# EAGLE library part FT312D-32Q1C-T (library FT312D)
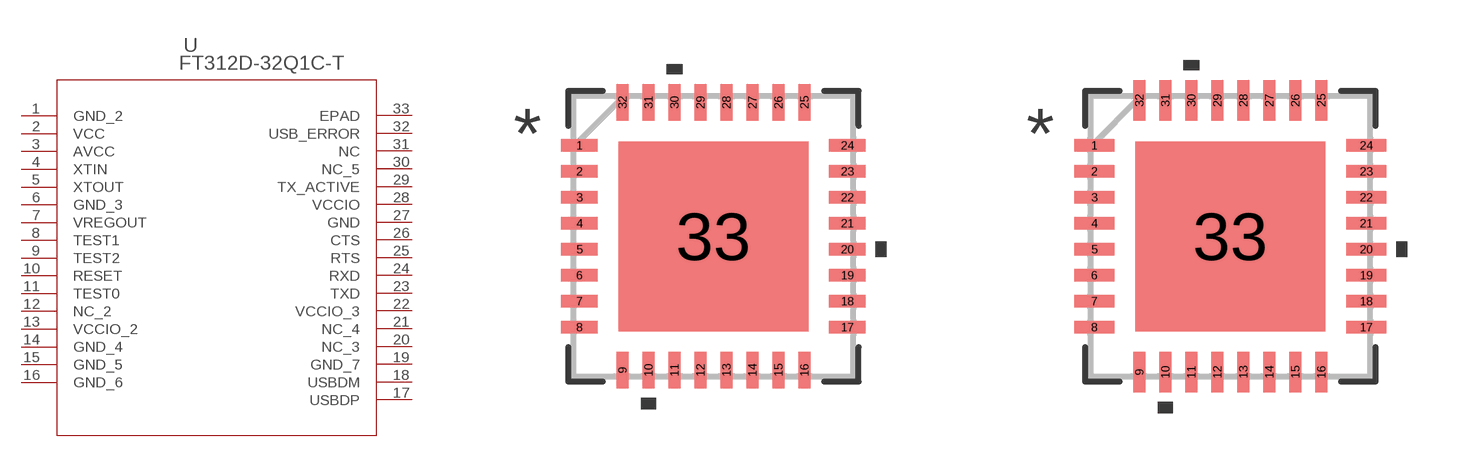
[diagram p0: symbol with the pads of QFN32_7X7-0P65_FTD; footprints QFN32_7X7-0P65_FTD, QFN32_7X7-0P65_FTD-M]

Designator prefix U

## FT312D-32Q1C-T (COPYRIGHT: Copyright (C) 2023 Ultra Librarian. All rights reserved.; MANUFACTURER_PART_NUMBER: FT312D-32Q1C-T; MFR_NAME: FTDI, Future Technology Devices International Ltd; TYPE: Interface)  [QFN32_7X7-0P65_FTD]
1  GND_2  pas
2  VCC  pwr
3  AVCC  pwr
4  XTIN  in
5  XTOUT  out
6  GND_3  pas
7  VREGOUT  pwr
8  TEST1  in
9  TEST2  in
10  RESET  in
11  TEST0  out
12  NC_2  nc
13  VCCIO_2  pwr
14  GND_4  pas
15  GND_5  pas
16  GND_6  pas
17  USBDP
18  USBDM
19  GND_7  pas
20  NC_3  nc
21  NC_4  nc
22  VCCIO_3  pwr
23  TXD  out
24  RXD  in
25  RTS  out
26  CTS  in
27  GND  pas
28  VCCIO  pwr
29  TX_ACTIVE  out
30  NC_5  nc
31  NC  nc
32  USB_ERROR  out
33  EPAD  pas

## FT312D-32Q1C-TQFN32_7X7-0P65_FTD-M (COPYRIGHT: Copyright (C) 2023 Ultra Librarian. All rights reserved.; MANUFACTURER_PART_NUMBER: FT312D-32Q1C-T; MFR_NAME: FTDI, Future Technology Devices International Ltd; TYPE: Interface)  [QFN32_7X7-0P65_FTD-M]
Pads as for QFN32_7X7-0P65_FTD

## FT312D-32Q1C-TQFN32_7X7-0P65_FTD-L (COPYRIGHT: Copyright (C) 2023 Ultra Librarian. All rights reserved.; MANUFACTURER_PART_NUMBER: FT312D-32Q1C-T; MFR_NAME: FTDI, Future Technology Devices International Ltd; TYPE: Interface)  [QFN32_7X7-0P65_FTD-L]
Pads as for QFN32_7X7-0P65_FTD

## Footprint QFN32_7X7-0P65_FTD (pad centres in mm)
smd 0.91 x 0.306: 1 -3.35,2.275; 2 -3.35,1.625; 3 -3.35,0.975; 4 -3.35,0.325; 5 -3.35,-0.325; 6 -3.35,-0.975; 7 -3.35,-1.625; 8 -3.35,-2.275; 17 3.35,-2.275; 18 3.35,-1.625; 19 3.35,-0.975; 20 3.35,-0.325; 21 3.35,0.325; 22 3.35,0.975; 23 3.35,1.625; 24 3.35,2.275
smd 0.306 x 0.91: 9 -2.275,-3.35; 10 -1.625,-3.35; 11 -0.975,-3.35; 12 -0.325,-3.35; 13 0.325,-3.35; 14 0.975,-3.35; 15 1.625,-3.35; 16 2.275,-3.35; 25 2.275,3.35; 26 1.625,3.35; 27 0.975,3.35; 28 0.325,3.35; 29 -0.325,3.35; 30 -0.975,3.35; 31 -1.625,3.35; 32 -2.275,3.35
smd 4.75 x 4.75: 33 0,0

## Footprint QFN32_7X7-0P65_FTD-M (pad centres in mm)
smd 1.01 x 0.306: 1 -3.4,2.275; 2 -3.4,1.625; 3 -3.4,0.975; 4 -3.4,0.325; 5 -3.4,-0.325; 6 -3.4,-0.975; 7 -3.4,-1.625; 8 -3.4,-2.275; 17 3.4,-2.275; 18 3.4,-1.625; 19 3.4,-0.975; 20 3.4,-0.325; 21 3.4,0.325; 22 3.4,0.975; 23 3.4,1.625; 24 3.4,2.275
smd 0.306 x 1.01: 9 -2.275,-3.4; 10 -1.625,-3.4; 11 -0.975,-3.4; 12 -0.325,-3.4; 13 0.325,-3.4; 14 0.975,-3.4; 15 1.625,-3.4; 16 2.275,-3.4; 25 2.275,3.4; 26 1.625,3.4; 27 0.975,3.4; 28 0.325,3.4; 29 -0.325,3.4; 30 -0.975,3.4; 31 -1.625,3.4; 32 -2.275,3.4
smd 4.75 x 4.75: 33 0,0

## Footprint QFN32_7X7-0P65_FTD-L (pad centres in mm)
smd 0.81 x 0.306: 1 -3.3,2.275; 2 -3.3,1.625; 3 -3.3,0.975; 4 -3.3,0.325; 5 -3.3,-0.325; 6 -3.3,-0.975; 7 -3.3,-1.625; 8 -3.3,-2.275; 17 3.3,-2.275; 18 3.3,-1.625; 19 3.3,-0.975; 20 3.3,-0.325; 21 3.3,0.325; 22 3.3,0.975; 23 3.3,1.625; 24 3.3,2.275
smd 0.306 x 0.81: 9 -2.275,-3.3; 10 -1.625,-3.3; 11 -0.975,-3.3; 12 -0.325,-3.3; 13 0.325,-3.3; 14 0.975,-3.3; 15 1.625,-3.3; 16 2.275,-3.3; 25 2.275,3.3; 26 1.625,3.3; 27 0.975,3.3; 28 0.325,3.3; 29 -0.325,3.3; 30 -0.975,3.3; 31 -1.625,3.3; 32 -2.275,3.3
smd 4.75 x 4.75: 33 0,0